# EAGLE library part TLW-113-05-T-S (library SAMTEC-Txx_By_element14_Batch_1)
CONNECTOR HEADER, 13 WAY, 1ROW
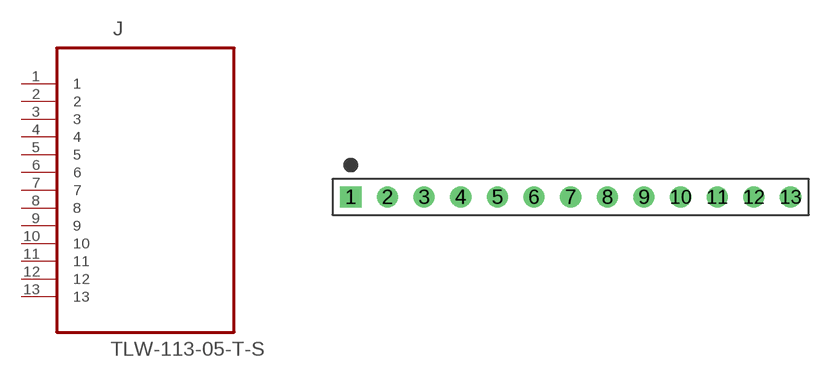
[diagram p199: symbol with the pads of SAMTEC_TLW-113-05-T-S; footprint SAMTEC_TLW-113-05-T-S]

Designator prefix J

## TLW-113-05-T-S (MPN: TLW-113-05-T-S; OC_FARNELL: -; OC_NEWARK: 12P0462; PACKAGE: CONN HEADER 13 POS .100 inch; SUPPLIER: SAMTEC)  [SAMTEC_TLW-113-05-T-S]
1  1  pas
2  2  pas
3  3  pas
4  4  pas
5  5  pas
6  6  pas
7  7  pas
8  8  pas
9  9  pas
10  10  pas
11  11  pas
12  12  pas
13  13  pas

## Footprint SAMTEC_TLW-113-05-T-S (pad centres in mm)
drill 0.965 square: 1 -30.48,0
drill 0.965: 2 -27.94,0; 3 -25.4,0; 4 -22.86,0; 5 -20.32,0; 6 -17.78,0; 7 -15.24,0; 8 -12.7,0; 9 -10.16,0; 10 -7.62,0; 11 -5.08,0; 12 -2.54,0; 13 0,0